# Altium integrated library TBL002A-350-03GR-2OR.IntLib: 1 symbol
Pins are listed as number, name and electrical type; pins without a type are passive.

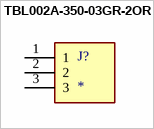
[diagram p0: symbol TBL002A-350-03GR-2OR]

## TBL002A-350-03GR-2OR
designator J?
1~24 Poles, Screwless, 45Â°, 3.50 Pitch, 24~20 (AWG), Terminal Block Connector; MP: TBL002A-350-03GR-2OR; MF: CUI Devices; Value: *; Availability: Good; Package: None; Price: None; SnapEDA_Link: https://www.snapeda.com/parts/TBL002A-350-03GR-2OR/CUI%20Devices/view-part/3233282/?ref=snap; Purchase-URL: https://pricing.snapeda.com/search/part/TBL002A-350-03GR-2OR/?ref=eda; CUI_purchase_URL: https://www.cuidevices.com/product/interconnect/connectors/terminal-blocks/tbl002a-350-series?utm_source=snapeda.com&utm_medium=referral&utm_campaign=snapedaBOM; Check_prices: https://www.snapeda.com/parts/TBL002A-350-03GR-2OR/CUI%20Devices/view-part/3233282/?ref=eda
footprint CUI_TBL002A-350-03GR-2OR
pins: 1, 2, 3